# EAGLE library part AIC1896 (library IC)
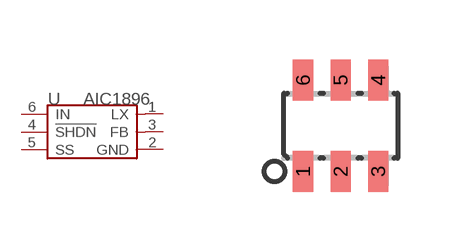
[diagram p10: symbol with the pads of SOT23-6; footprint SOT23-6]

Designator prefix U

## AIC1896  [SOT23-6]
1  LX  out
2  GND  pwr
3  FB  in
4  !SHDN  in
5  SS  in
6  IN  in

## Footprint SOT23-6 (pad centres in mm)
smd 0.508 x 1.016: 1 -0.94,-1.143; 2 0,-1.143; 3 0.94,-1.143; 4 0.94,1.143; 5 0,1.143; 6 -0.94,1.143